# EAGLE library part 74LVC3GU04 (library nxp)
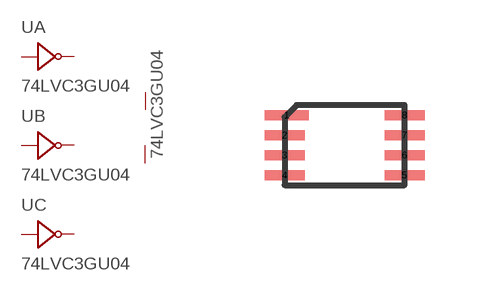
[diagram p1: symbol with the pads of XSON8U; footprint XSON8U]

Designator prefix -; gates A=NOT_GATE B=NOT_GATE C=NOT_GATE P=PWR

## 74LVC3GU04  [XSON8U]
1  A:A
2  C:B
3  B:A
4  P:GND
5  B:B
6  C:A
7  A:B
8  P:PWR

## Footprint XSON8U (pad centres in mm)
smd 1.1 x 0.25: 1 -1.45,0.75
smd 1 x 0.25: 2 -1.5,0.25; 3 -1.5,-0.25; 4 -1.5,-0.75; 5 1.5,-0.75; 6 1.5,-0.25; 7 1.5,0.25; 8 1.5,0.75